# Altium footprint library Connector_JST.PcbLib: 558 footprints (part 4 of 35)
Each footprint in its own frame and in the unit in brackets; x right, y up, seen from the top. Pads: shape width x height; smd on the part's side, far side on the other; paste and mask are expansions set on the pad; w line width, h text height; cw(c..) or ccw(c..) is an arc to the next point about the centre after c.
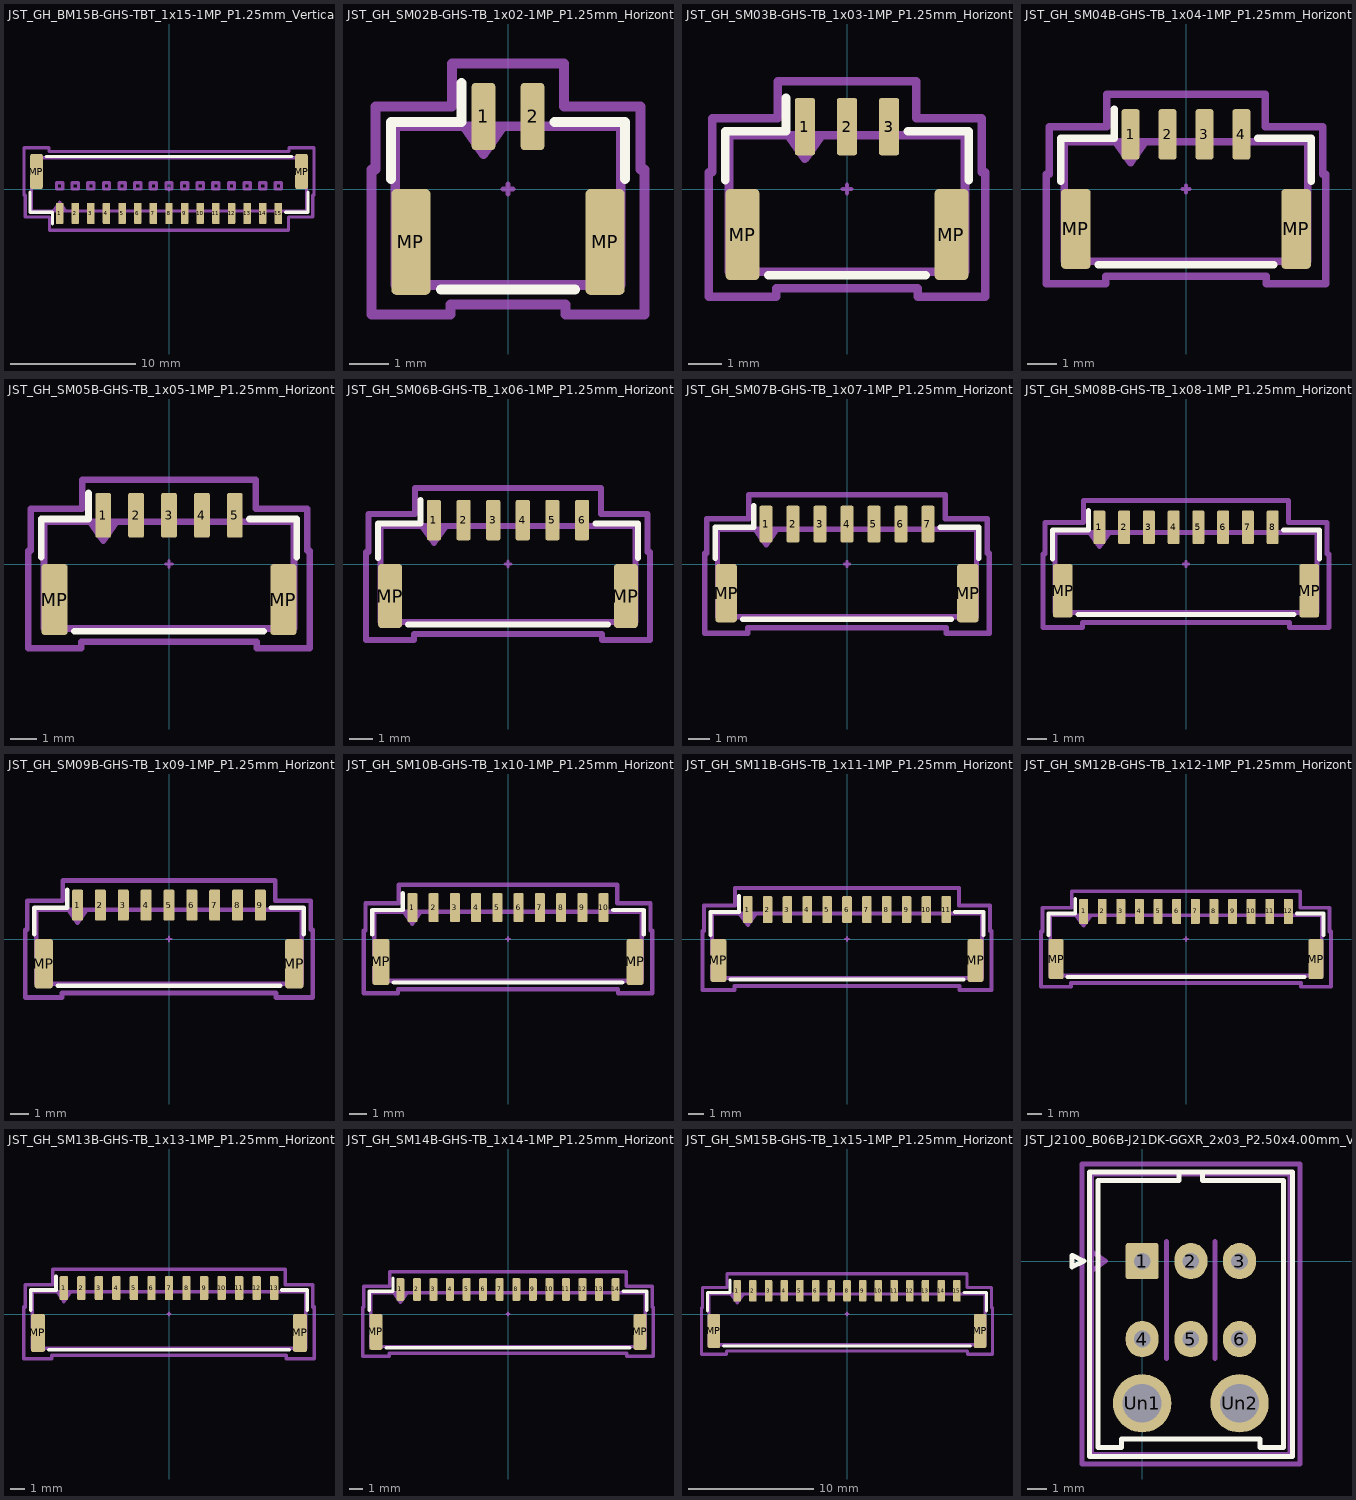
[diagram p3: the footprints below, top view; thin cyan lines are the x and y axes]

## JST_GH_BM15B-GHS-TBT_1x15-1MP_P1.25mm_Vertical [mm] "JST_GH_BM15B-GHS-TBT_1x15-1MP_P1.25mm_Vertical"
pads (17):
  rrect25% 0.6x1.7 smd: 1(-8.75,-1.95) 2(-7.5,-1.95) 3(-6.25,-1.95) 4(-5,-1.95) 5(-3.75,-1.95) 6(-2.5,-1.95) 7(-1.25,-1.95) 8(0,-1.95) 9(1.25,-1.95) 10(2.5,-1.95) 11(3.75,-1.95) 12(5,-1.95) 13(6.25,-1.95) 14(7.5,-1.95) 15(8.75,-1.95)
  rrect25% 1x2.8 smd: MP(-10.6,1.4) MP(10.6,1.4)
F.SilkS:
  lines w0.254: -11.11,-0.26 -11.11,-1.86 -9.31,-1.86 -9.31,-2.8 ; -9.84,2.61 9.84,2.61 ; 9.31,-1.86 11.11,-1.86 11.11,-0.26
Top Component Center:
  lines w0.127: -0.127,0 0.127,0 ; 0,-0.127 0,0.127
Top Assembly:
  lines w0.254: -9.25,-1.75 -8.75,-1.043 -8.25,-1.75 ; -11,-1.75 -11,2.5 11,2.5 11,-1.75 -11,-1.75 ; -9,0 -9,0.5 -8.5,0.5 -8.5,0 -9,0 ; -7.75,0 -7.75,0.5 -7.25,0.5 -7.25,0 -7.75,0 ; -6.5,0 -6.5,0.5 -6,0.5 -6,0 -6.5,0 ; -5.25,0 -5.25,0.5 -4.75,0.5 -4.75,0 -5.25,0 ; -4,0 -4,0.5 -3.5,0.5 -3.5,0 -4,0 ; -2.75,0 -2.75,0.5 -2.25,0.5 -2.25,0 -2.75,0 ; -1.5,0 -1.5,0.5 -1,0.5 -1,0 -1.5,0 ; -0.25,0 -0.25,0.5 0.25,0.5 0.25,0 -0.25,0 ; 1,0 1,0.5 1.5,0.5 1.5,0 1,0 ; 2.25,0 2.25,0.5 2.75,0.5 2.75,0 2.25,0 ; 3.5,0 3.5,0.5 4,0.5 4,0 3.5,0 ; 4.75,0 4.75,0.5 5.25,0.5 5.25,0 4.75,0 ; 6,0 6,0.5 6.5,0.5 6.5,0 6,0 ; 7.25,0 7.25,0.5 7.75,0.5 7.75,0 7.25,0 ; 8.5,0 8.5,0.5 9,0.5 9,0 8.5,0
Top Courtyard:
  lines w0.254: -11.6,-0.5 -11.6,3.3 -9.6,3.3 -9.6,3 9.6,3 9.6,3.3 11.6,3.3 11.6,-0.5 11.5,-0.5 11.5,-2.25 9.55,-2.25 9.55,-3.3 -9.55,-3.3 -9.55,-2.25 -11.5,-2.25 -11.5,-0.5 -11.6,-0.5
Top Designator:
  text ".Designator" at -3.43,1.18 h1.52

## JST_GH_SM02B-GHS-TB_1x02-1MP_P1.25mm_Horizontal [mm] "JST_GH_SM02B-GHS-TB_1x02-1MP_P1.25mm_Horizontal"
pads (4):
  rrect25% 0.6x1.7 smd: 1(-0.625,1.85) 2(0.625,1.85)
  rrect25% 1x2.7 smd: MP(-2.475,-1.35) MP(2.475,-1.35)
F.SilkS:
  lines w0.254: -2.985,0.26 -2.985,1.71 -1.185,1.71 -1.185,2.7 ; -1.715,-2.56 1.715,-2.56 ; 1.185,1.71 2.985,1.71 2.985,0.26
Top Component Center:
  lines w0.127: -0.127,0 0.127,0 ; 0,-0.127 0,0.127
Top Assembly:
  lines w0.254: -1.125,1.6 -0.625,0.893 -0.125,1.6 ; -2.875,-2.45 2.875,-2.45 2.875,1.6 -2.875,1.6 -2.875,-2.45
Top Courtyard:
  lines w0.254: -3.48,-3.2 -1.47,-3.2 -1.47,-2.95 1.47,-2.95 1.47,-3.2 3.48,-3.2 3.48,0.5 3.38,0.5 3.38,2.1 1.43,2.1 1.43,3.2 -1.43,3.2 -1.43,2.1 -3.38,2.1 -3.38,0.5 -3.48,0.5 -3.48,-3.2
Top Designator:
  text ".Designator" at -3.43,-0.344 h1.52
3D body "JST_GH_SM02B-GHS-TB_1x02-1MP_P1.25mm_Horizontal.step": height 4.25, standoff -0.01, extent -2.875,-2.475 2.875,2.475

## JST_GH_SM03B-GHS-TB_1x03-1MP_P1.25mm_Horizontal [mm] "JST_GH_SM03B-GHS-TB_1x03-1MP_P1.25mm_Horizontal"
pads (5):
  rrect25% 0.6x1.7 smd: 1(-1.25,1.85) 2(0,1.85) 3(1.25,1.85)
  rrect25% 1x2.7 smd: MP(-3.1,-1.35) MP(3.1,-1.35)
F.SilkS:
  lines w0.254: -3.61,0.26 -3.61,1.71 -1.81,1.71 -1.81,2.7 ; -2.34,-2.56 2.34,-2.56 ; 1.81,1.71 3.61,1.71 3.61,0.26
Top Component Center:
  lines w0.127: -0.127,0 0.127,0 ; 0,-0.127 0,0.127
Top Assembly:
  lines w0.254: -1.75,1.6 -1.25,0.893 -0.75,1.6 ; -3.5,-2.45 3.5,-2.45 3.5,1.6 -3.5,1.6 -3.5,-2.45
Top Courtyard:
  lines w0.254: -4.1,-3.2 -2.1,-3.2 -2.1,-2.95 2.1,-2.95 2.1,-3.2 4.1,-3.2 4.1,0.5 4,0.5 4,2.1 2.05,2.1 2.05,3.2 -2.05,3.2 -2.05,2.1 -4,2.1 -4,0.5 -4.1,0.5 -4.1,-3.2
Top Designator:
  text ".Designator" at -3.43,-0.344 h1.52
3D body "JST_GH_SM03B-GHS-TB_1x03-1MP_P1.25mm_Horizontal.step": height 4.25, standoff -0.01, extent -3.5,-2.475 3.5,2.475

## JST_GH_SM04B-GHS-TB_1x04-1MP_P1.25mm_Horizontal [mm] "JST_GH_SM04B-GHS-TB_1x04-1MP_P1.25mm_Horizontal"
pads (6):
  rrect25% 0.6x1.7 smd: 1(-1.875,1.85) 2(-0.625,1.85) 3(0.625,1.85) 4(1.875,1.85)
  rrect25% 1x2.7 smd: MP(-3.725,-1.35) MP(3.725,-1.35)
F.SilkS:
  lines w0.254: -4.235,0.26 -4.235,1.71 -2.435,1.71 -2.435,2.7 ; -2.965,-2.56 2.965,-2.56 ; 2.435,1.71 4.235,1.71 4.235,0.26
Top Component Center:
  lines w0.127: -0.127,0 0.127,0 ; 0,-0.127 0,0.127
Top Assembly:
  lines w0.254: -2.375,1.6 -1.875,0.893 -1.375,1.6 ; -4.125,-2.45 4.125,-2.45 4.125,1.6 -4.125,1.6 -4.125,-2.45
Top Courtyard:
  lines w0.254: -4.73,-3.2 -2.72,-3.2 -2.72,-2.95 2.72,-2.95 2.72,-3.2 4.73,-3.2 4.73,0.5 4.63,0.5 4.63,2.1 2.68,2.1 2.68,3.2 -2.68,3.2 -2.68,2.1 -4.63,2.1 -4.63,0.5 -4.73,0.5 -4.73,-3.2
Top Designator:
  text ".Designator" at -3.43,-0.344 h1.52
3D body "JST_GH_SM04B-GHS-TB_1x04-1MP_P1.25mm_Horizontal.step": height 4.25, standoff -0.01, extent -4.125,-2.475 4.125,2.475

## JST_GH_SM05B-GHS-TB_1x05-1MP_P1.25mm_Horizontal [mm] "JST_GH_SM05B-GHS-TB_1x05-1MP_P1.25mm_Horizontal"
pads (7):
  rrect25% 0.6x1.7 smd: 1(-2.5,1.85) 2(-1.25,1.85) 3(0,1.85) 4(1.25,1.85) 5(2.5,1.85)
  rrect25% 1x2.7 smd: MP(-4.35,-1.35) MP(4.35,-1.35)
F.SilkS:
  lines w0.254: -4.86,0.26 -4.86,1.71 -3.06,1.71 -3.06,2.7 ; -3.59,-2.56 3.59,-2.56 ; 3.06,1.71 4.86,1.71 4.86,0.26
Top Component Center:
  lines w0.127: -0.127,0 0.127,0 ; 0,-0.127 0,0.127
Top Assembly:
  lines w0.254: -3,1.6 -2.5,0.893 -2,1.6 ; -4.75,-2.45 4.75,-2.45 4.75,1.6 -4.75,1.6 -4.75,-2.45
Top Courtyard:
  lines w0.254: -5.35,-3.2 -3.34,-3.2 -3.34,-2.95 3.34,-2.95 3.34,-3.2 5.35,-3.2 5.35,0.5 5.25,0.5 5.25,2.1 3.3,2.1 3.3,3.2 -3.3,3.2 -3.3,2.1 -5.25,2.1 -5.25,0.5 -5.35,0.5 -5.35,-3.2
Top Designator:
  text ".Designator" at -3.43,-0.344 h1.52
3D body "JST_GH_SM05B-GHS-TB_1x05-1MP_P1.25mm_Horizontal.step": height 4.25, standoff -0.01, extent -4.75,-2.475 4.75,2.475

## JST_GH_SM06B-GHS-TB_1x06-1MP_P1.25mm_Horizontal [mm] "JST_GH_SM06B-GHS-TB_1x06-1MP_P1.25mm_Horizontal"
pads (8):
  rrect25% 0.6x1.7 smd: 1(-3.125,1.85) 2(-1.875,1.85) 3(-0.625,1.85) 4(0.625,1.85) 5(1.875,1.85) 6(3.125,1.85)
  rrect25% 1x2.7 smd: MP(-4.975,-1.35) MP(4.975,-1.35)
F.SilkS:
  lines w0.254: -5.485,0.26 -5.485,1.71 -3.685,1.71 -3.685,2.7 ; -4.215,-2.56 4.215,-2.56 ; 3.685,1.71 5.485,1.71 5.485,0.26
Top Component Center:
  lines w0.127: -0.127,0 0.127,0 ; 0,-0.127 0,0.127
Top Assembly:
  lines w0.254: -3.625,1.6 -3.125,0.893 -2.625,1.6 ; -5.375,-2.45 5.375,-2.45 5.375,1.6 -5.375,1.6 -5.375,-2.45
Top Courtyard:
  lines w0.254: -5.98,-3.2 -3.97,-3.2 -3.97,-2.95 3.97,-2.95 3.97,-3.2 5.98,-3.2 5.98,0.5 5.88,0.5 5.88,2.1 3.93,2.1 3.93,3.2 -3.93,3.2 -3.93,2.1 -5.88,2.1 -5.88,0.5 -5.98,0.5 -5.98,-3.2
Top Designator:
  text ".Designator" at -3.43,-0.344 h1.52
3D body "JST_GH_SM06B-GHS-TB_1x06-1MP_P1.25mm_Horizontal.step": height 4.25, standoff -0.01, extent -5.375,-2.475 5.375,2.475

## JST_GH_SM07B-GHS-TB_1x07-1MP_P1.25mm_Horizontal [mm] "JST_GH_SM07B-GHS-TB_1x07-1MP_P1.25mm_Horizontal"
pads (9):
  rrect25% 0.6x1.7 smd: 1(-3.75,1.85) 2(-2.5,1.85) 3(-1.25,1.85) 4(0,1.85) 5(1.25,1.85) 6(2.5,1.85) 7(3.75,1.85)
  rrect25% 1x2.7 smd: MP(-5.6,-1.35) MP(5.6,-1.35)
F.SilkS:
  lines w0.254: -6.11,0.26 -6.11,1.71 -4.31,1.71 -4.31,2.7 ; -4.84,-2.56 4.84,-2.56 ; 4.31,1.71 6.11,1.71 6.11,0.26
Top Component Center:
  lines w0.127: -0.127,0 0.127,0 ; 0,-0.127 0,0.127
Top Assembly:
  lines w0.254: -4.25,1.6 -3.75,0.893 -3.25,1.6 ; -6,-2.45 6,-2.45 6,1.6 -6,1.6 -6,-2.45
Top Courtyard:
  lines w0.254: -6.6,-3.2 -4.6,-3.2 -4.6,-2.95 4.6,-2.95 4.6,-3.2 6.6,-3.2 6.6,0.5 6.5,0.5 6.5,2.1 4.55,2.1 4.55,3.2 -4.55,3.2 -4.55,2.1 -6.5,2.1 -6.5,0.5 -6.6,0.5 -6.6,-3.2
Top Designator:
  text ".Designator" at -3.43,-0.344 h1.52
3D body "JST_GH_SM07B-GHS-TB_1x07-1MP_P1.25mm_Horizontal.step": height 4.25, standoff -0.01, extent -6,-2.475 6,2.475

## JST_GH_SM08B-GHS-TB_1x08-1MP_P1.25mm_Horizontal [mm] "JST_GH_SM08B-GHS-TB_1x08-1MP_P1.25mm_Horizontal"
pads (10):
  rrect25% 0.6x1.7 smd: 1(-4.375,1.85) 2(-3.125,1.85) 3(-1.875,1.85) 4(-0.625,1.85) 5(0.625,1.85) 6(1.875,1.85) 7(3.125,1.85) 8(4.375,1.85)
  rrect25% 1x2.7 smd: MP(-6.225,-1.35) MP(6.225,-1.35)
F.SilkS:
  lines w0.254: -6.735,0.26 -6.735,1.71 -4.935,1.71 -4.935,2.7 ; -5.465,-2.56 5.465,-2.56 ; 4.935,1.71 6.735,1.71 6.735,0.26
Top Component Center:
  lines w0.127: -0.127,0 0.127,0 ; 0,-0.127 0,0.127
Top Assembly:
  lines w0.254: -4.875,1.6 -4.375,0.893 -3.875,1.6 ; -6.625,-2.45 6.625,-2.45 6.625,1.6 -6.625,1.6 -6.625,-2.45
Top Courtyard:
  lines w0.254: -7.23,-3.2 -5.22,-3.2 -5.22,-2.95 5.22,-2.95 5.22,-3.2 7.23,-3.2 7.23,0.5 7.13,0.5 7.13,2.1 5.18,2.1 5.18,3.2 -5.18,3.2 -5.18,2.1 -7.13,2.1 -7.13,0.5 -7.23,0.5 -7.23,-3.2
Top Designator:
  text ".Designator" at -3.43,-0.344 h1.52
3D body "JST_GH_SM08B-GHS-TB_1x08-1MP_P1.25mm_Horizontal.step": height 4.25, standoff -0.01, extent -6.625,-2.475 6.625,2.475

## JST_GH_SM09B-GHS-TB_1x09-1MP_P1.25mm_Horizontal [mm] "JST_GH_SM09B-GHS-TB_1x09-1MP_P1.25mm_Horizontal"
pads (11):
  rrect25% 0.6x1.7 smd: 1(-5,1.85) 2(-3.75,1.85) 3(-2.5,1.85) 4(-1.25,1.85) 5(0,1.85) 6(1.25,1.85) 7(2.5,1.85) 8(3.75,1.85) 9(5,1.85)
  rrect25% 1x2.7 smd: MP(-6.85,-1.35) MP(6.85,-1.35)
F.SilkS:
  lines w0.254: -7.36,0.26 -7.36,1.71 -5.56,1.71 -5.56,2.7 ; -6.09,-2.56 6.09,-2.56 ; 5.56,1.71 7.36,1.71 7.36,0.26
Top Component Center:
  lines w0.127: -0.127,0 0.127,0 ; 0,-0.127 0,0.127
Top Assembly:
  lines w0.254: -5.5,1.6 -5,0.893 -4.5,1.6 ; -7.25,-2.45 7.25,-2.45 7.25,1.6 -7.25,1.6 -7.25,-2.45
Top Courtyard:
  lines w0.254: -7.85,-3.2 -5.85,-3.2 -5.85,-2.95 5.85,-2.95 5.85,-3.2 7.85,-3.2 7.85,0.5 7.75,0.5 7.75,2.1 5.8,2.1 5.8,3.2 -5.8,3.2 -5.8,2.1 -7.75,2.1 -7.75,0.5 -7.85,0.5 -7.85,-3.2
Top Designator:
  text ".Designator" at -3.43,-0.344 h1.52
3D body "JST_GH_SM09B-GHS-TB_1x09-1MP_P1.25mm_Horizontal.step": height 4.25, standoff -0.01, extent -7.25,-2.475 7.25,2.475

## JST_GH_SM10B-GHS-TB_1x10-1MP_P1.25mm_Horizontal [mm] "JST_GH_SM10B-GHS-TB_1x10-1MP_P1.25mm_Horizontal"
pads (12):
  rrect25% 0.6x1.7 smd: 1(-5.625,1.85) 2(-4.375,1.85) 3(-3.125,1.85) 4(-1.875,1.85) 5(-0.625,1.85) 6(0.625,1.85) 7(1.875,1.85) 8(3.125,1.85) 9(4.375,1.85) 10(5.625,1.85)
  rrect25% 1x2.7 smd: MP(-7.475,-1.35) MP(7.475,-1.35)
F.SilkS:
  lines w0.254: -7.985,0.26 -7.985,1.71 -6.185,1.71 -6.185,2.7 ; -6.715,-2.56 6.715,-2.56 ; 6.185,1.71 7.985,1.71 7.985,0.26
Top Component Center:
  lines w0.127: -0.127,0 0.127,0 ; 0,-0.127 0,0.127
Top Assembly:
  lines w0.254: -6.125,1.6 -5.625,0.893 -5.125,1.6 ; -7.875,-2.45 7.875,-2.45 7.875,1.6 -7.875,1.6 -7.875,-2.45
Top Courtyard:
  lines w0.254: -8.48,-3.2 -6.47,-3.2 -6.47,-2.95 6.47,-2.95 6.47,-3.2 8.48,-3.2 8.48,0.5 8.38,0.5 8.38,2.1 6.43,2.1 6.43,3.2 -6.43,3.2 -6.43,2.1 -8.38,2.1 -8.38,0.5 -8.48,0.5 -8.48,-3.2
Top Designator:
  text ".Designator" at -3.43,-0.344 h1.52
3D body "JST_GH_SM10B-GHS-TB_1x10-1MP_P1.25mm_Horizontal.step": height 4.25, standoff -0.01, extent -7.875,-2.475 7.875,2.475

## JST_GH_SM11B-GHS-TB_1x11-1MP_P1.25mm_Horizontal [mm] "JST_GH_SM11B-GHS-TB_1x11-1MP_P1.25mm_Horizontal"
pads (13):
  rrect25% 0.6x1.7 smd: 1(-6.25,1.85) 2(-5,1.85) 3(-3.75,1.85) 4(-2.5,1.85) 5(-1.25,1.85) 6(0,1.85) 7(1.25,1.85) 8(2.5,1.85) 9(3.75,1.85) 10(5,1.85) 11(6.25,1.85)
  rrect25% 1x2.7 smd: MP(-8.1,-1.35) MP(8.1,-1.35)
F.SilkS:
  lines w0.254: -8.61,0.26 -8.61,1.71 -6.81,1.71 -6.81,2.7 ; -7.34,-2.56 7.34,-2.56 ; 6.81,1.71 8.61,1.71 8.61,0.26
Top Component Center:
  lines w0.127: -0.127,0 0.127,0 ; 0,-0.127 0,0.127
Top Assembly:
  lines w0.254: -6.75,1.6 -6.25,0.893 -5.75,1.6 ; -8.5,-2.45 -8.5,1.6 8.5,1.6 8.5,-2.45 -8.5,-2.45
Top Courtyard:
  lines w0.254: -9.1,-3.2 -9.1,0.5 -9,0.5 -9,2.1 -7.05,2.1 -7.05,3.2 7.05,3.2 7.05,2.1 9,2.1 9,0.5 9.1,0.5 9.1,-3.2 7.1,-3.2 7.1,-2.95 -7.1,-2.95 -7.1,-3.2 -9.1,-3.2
Top Designator:
  text ".Designator" at -3.43,-0.344 h1.52
3D body "JST_GH_SM11B-GHS-TB_1x11-1MP_P1.25mm_Horizontal.step": height 4.25, standoff -0.01, extent -8.5,-2.475 8.5,2.475

## JST_GH_SM12B-GHS-TB_1x12-1MP_P1.25mm_Horizontal [mm] "JST_GH_SM12B-GHS-TB_1x12-1MP_P1.25mm_Horizontal"
pads (14):
  rrect25% 0.6x1.7 smd: 1(-6.875,1.85) 2(-5.625,1.85) 3(-4.375,1.85) 4(-3.125,1.85) 5(-1.875,1.85) 6(-0.625,1.85) 7(0.625,1.85) 8(1.875,1.85) 9(3.125,1.85) 10(4.375,1.85) 11(5.625,1.85) 12(6.875,1.85)
  rrect25% 1x2.7 smd: MP(-8.725,-1.35) MP(8.725,-1.35)
F.SilkS:
  lines w0.254: -9.235,0.26 -9.235,1.71 -7.435,1.71 -7.435,2.7 ; -7.965,-2.56 7.965,-2.56 ; 7.435,1.71 9.235,1.71 9.235,0.26
Top Component Center:
  lines w0.127: -0.127,0 0.127,0 ; 0,-0.127 0,0.127
Top Assembly:
  lines w0.254: -7.375,1.6 -6.875,0.893 -6.375,1.6 ; -9.125,-2.45 -9.125,1.6 9.125,1.6 9.125,-2.45 -9.125,-2.45
Top Courtyard:
  lines w0.254: -9.73,-3.2 -9.73,0.5 -9.63,0.5 -9.63,2.1 -7.68,2.1 -7.68,3.2 7.68,3.2 7.68,2.1 9.63,2.1 9.63,0.5 9.73,0.5 9.73,-3.2 7.72,-3.2 7.72,-2.95 -7.72,-2.95 -7.72,-3.2 -9.73,-3.2
Top Designator:
  text ".Designator" at -3.43,-0.344 h1.52
3D body "JST_GH_SM12B-GHS-TB_1x12-1MP_P1.25mm_Horizontal.step": height 4.25, standoff -0.01, extent -9.125,-2.475 9.125,2.475

## JST_GH_SM13B-GHS-TB_1x13-1MP_P1.25mm_Horizontal [mm] "JST_GH_SM13B-GHS-TB_1x13-1MP_P1.25mm_Horizontal"
pads (15):
  rrect25% 0.6x1.7 smd: 1(-7.5,1.85) 2(-6.25,1.85) 3(-5,1.85) 4(-3.75,1.85) 5(-2.5,1.85) 6(-1.25,1.85) 7(0,1.85) 8(1.25,1.85) 9(2.5,1.85) 10(3.75,1.85) 11(5,1.85) 12(6.25,1.85) 13(7.5,1.85)
  rrect25% 1x2.7 smd: MP(-9.35,-1.35) MP(9.35,-1.35)
F.SilkS:
  lines w0.254: -9.86,0.26 -9.86,1.71 -8.06,1.71 -8.06,2.7 ; -8.59,-2.56 8.59,-2.56 ; 8.06,1.71 9.86,1.71 9.86,0.26
Top Component Center:
  lines w0.127: -0.127,0 0.127,0 ; 0,-0.127 0,0.127
Top Assembly:
  lines w0.254: -8,1.6 -7.5,0.893 -7,1.6 ; -9.75,-2.45 9.75,-2.45 9.75,1.6 -9.75,1.6 -9.75,-2.45
Top Courtyard:
  lines w0.254: -10.35,-3.2 -8.35,-3.2 -8.35,-2.95 8.35,-2.95 8.35,-3.2 10.35,-3.2 10.35,0.5 10.25,0.5 10.25,2.1 8.3,2.1 8.3,3.2 -8.3,3.2 -8.3,2.1 -10.25,2.1 -10.25,0.5 -10.35,0.5 -10.35,-3.2
Top Designator:
  text ".Designator" at -3.43,-0.344 h1.52
3D body "JST_GH_SM13B-GHS-TB_1x13-1MP_P1.25mm_Horizontal.step": height 4.25, standoff -0.01, extent -9.75,-2.475 9.75,2.475

## JST_GH_SM14B-GHS-TB_1x14-1MP_P1.25mm_Horizontal [mm] "JST_GH_SM14B-GHS-TB_1x14-1MP_P1.25mm_Horizontal"
pads (16):
  rrect25% 0.6x1.7 smd: 1(-8.125,1.85) 2(-6.875,1.85) 3(-5.625,1.85) 4(-4.375,1.85) 5(-3.125,1.85) 6(-1.875,1.85) 7(-0.625,1.85) 8(0.625,1.85) 9(1.875,1.85) 10(3.125,1.85) 11(4.375,1.85) 12(5.625,1.85) 13(6.875,1.85) 14(8.125,1.85)
  rrect25% 1x2.7 smd: MP(-9.975,-1.35) MP(9.975,-1.35)
F.SilkS:
  lines w0.254: -10.485,0.26 -10.485,1.71 -8.685,1.71 -8.685,2.7 ; -9.215,-2.56 9.215,-2.56 ; 8.685,1.71 10.485,1.71 10.485,0.26
Top Component Center:
  lines w0.127: -0.127,0 0.127,0 ; 0,-0.127 0,0.127
Top Assembly:
  lines w0.254: -8.625,1.6 -8.125,0.893 -7.625,1.6 ; -10.375,-2.45 -10.375,1.6 10.375,1.6 10.375,-2.45 -10.375,-2.45
Top Courtyard:
  lines w0.254: -10.98,-3.2 -10.98,0.5 -10.88,0.5 -10.88,2.1 -8.93,2.1 -8.93,3.2 8.93,3.2 8.93,2.1 10.88,2.1 10.88,0.5 10.98,0.5 10.98,-3.2 8.97,-3.2 8.97,-2.95 -8.97,-2.95 -8.97,-3.2 -10.98,-3.2
Top Designator:
  text ".Designator" at -3.43,-0.344 h1.52
3D body "JST_GH_SM14B-GHS-TB_1x14-1MP_P1.25mm_Horizontal.step": height 4.25, standoff -0.01, extent -10.375,-2.475 10.375,2.475

## JST_GH_SM15B-GHS-TB_1x15-1MP_P1.25mm_Horizontal [mm] "JST_GH_SM15B-GHS-TB_1x15-1MP_P1.25mm_Horizontal"
pads (17):
  rrect25% 0.6x1.7 smd: 1(-8.75,1.85) 2(-7.5,1.85) 3(-6.25,1.85) 4(-5,1.85) 5(-3.75,1.85) 6(-2.5,1.85) 7(-1.25,1.85) 8(0,1.85) 9(1.25,1.85) 10(2.5,1.85) 11(3.75,1.85) 12(5,1.85) 13(6.25,1.85) 14(7.5,1.85) 15(8.75,1.85)
  rrect25% 1x2.7 smd: MP(-10.6,-1.35) MP(10.6,-1.35)
F.SilkS:
  lines w0.254: -11.11,0.26 -11.11,1.71 -9.31,1.71 -9.31,2.7 ; -9.84,-2.56 9.84,-2.56 ; 9.31,1.71 11.11,1.71 11.11,0.26
Top Component Center:
  lines w0.127: -0.127,0 0.127,0 ; 0,-0.127 0,0.127
Top Assembly:
  lines w0.254: -9.25,1.6 -8.75,0.893 -8.25,1.6 ; -11,-2.45 -11,1.6 11,1.6 11,-2.45 -11,-2.45
Top Courtyard:
  lines w0.254: -11.6,-3.2 -11.6,0.5 -11.5,0.5 -11.5,2.1 -9.55,2.1 -9.55,3.2 9.55,3.2 9.55,2.1 11.5,2.1 11.5,0.5 11.6,0.5 11.6,-3.2 9.6,-3.2 9.6,-2.95 -9.6,-2.95 -9.6,-3.2 -11.6,-3.2
Top Designator:
  text ".Designator" at -3.43,-0.344 h1.52

## JST_J2100_B06B-J21DK-GGXR_2x03_P2.50x4.00mm_Vertical [mm] "JST_J2100_B06B-J21DK-GGXR_2x03_P2.50x4.00mm_Vertical"
pads (8):
  rrect15% 1.7x1.86 hole 0.86: 1(0,0)
  rrect100% 1.7x1.86 hole 0.86: 2(2.5,0) 3(5,0) 4(0,-4) 5(2.5,-4) 6(5,-4)
  round 3 hole 2: Un1(0,-7.3) Un2(5,-7.3)
F.SilkS:
  lines w0.254: 1.9,4.59 1.9,4.14 -2.26,4.14 -2.26,-9.58 -1.06,-9.58 -1.06,-9.13 2.5,-9.13 6.06,-9.13 6.06,-9.58 7.26,-9.58 7.26,4.14 3.1,4.14 3.1,4.59 ; -3.6,-0.3 -3,0 -3.6,0.3 -3.6,-0.3 ; -2.71,-10.03 7.71,-10.03 7.71,4.59 -2.71,4.59 -2.71,-10.03
Top Component Center:
  lines w0.127: -0.127,0 0.127,0 ; 0,-0.127 0,0.127
Top Assembly:
  lines w0.254: -2.6,-0.5 -1.893,0 -2.6,0.5 ; 1.25,-5 1.25,1 ; 3.75,-5 3.75,1 ; -2.6,-9.92 7.6,-9.92 7.6,4.48 -2.6,4.48 -2.6,-9.92
Top Courtyard:
  lines w0.254: -3.1,-10.42 8.1,-10.42 8.1,4.99 -3.1,4.99 -3.1,-10.42
Top Designator:
  text ".Designator" at -0.89,2.577 h1.52